# EAGLE library part THAT2181 (library that-corp)
VCA Trimmable IC
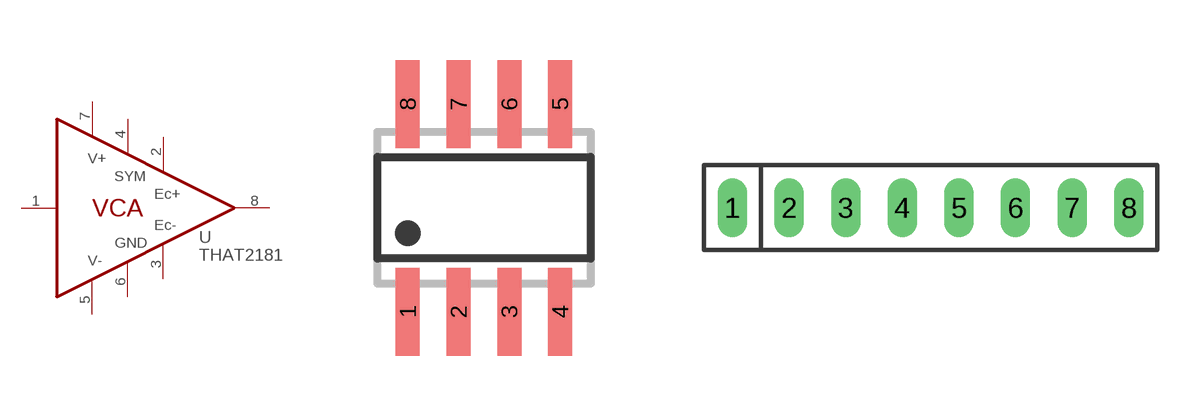
[diagram p1: symbol with the pads of SO08; footprints SO08, SIP8]

Designator prefix U

## THAT2181S  [SO08]
1  IN  in
2  EC+  pas
3  EC-  out
4  SYM  pas
5  V-  pwr
6  GND  pas
7  V+  pwr
8  OUT  out

## THAT2181L  [SIP8]
Pads as for SO08

## Footprint SO08 (pad centres in mm)
SMALL OUTLINE INTEGRATED CIRCUIT body 3.9 mm/JEDEC MS-012AA
smd 0.6 x 2.2: 1 -1.905,-2.6; 2 -0.635,-2.6; 3 0.635,-2.6; 4 1.905,-2.6; 5 1.905,2.6; 6 0.635,2.6; 7 -0.635,2.6; 8 -1.905,2.6

## Footprint SIP8 (pad centres in mm)
SIP-9 9 Pin SIP IC
drill 0.813 long: 1 -10.16,0; 2 -7.62,0; 3 -5.08,0; 4 -2.54,0; 5 0,0; 6 2.54,0; 7 5.08,0; 8 7.62,0